# EAGLE library part MAX11635EEE+ (library CurrentSensing)
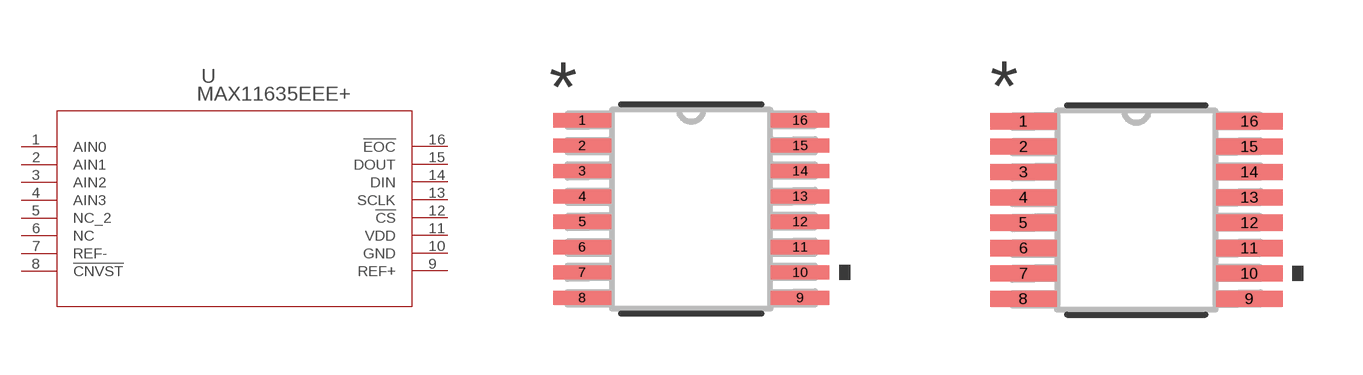
[diagram p2: symbol with the pads of 21-0055H_16_MXM; footprints 21-0055H_16_MXM, 21-0055H_16_MXM-M]

Designator prefix U

## MAX11635EEE+ (BUILT_BY: EMA_UL_Team; MANUFACTURER_PART_NUMBER: MAX11635EEE+; SOURCELIBRARY: Maxim_2014-05-21; VENDOR: Maxim Integrated Products)  [21-0055H_16_MXM]
1  AIN0  in
2  AIN1  in
3  AIN2  in
4  AIN3  in
5  NC_2  pas
6  NC  pas
7  REF-  pas
8  !CNVST  pas
9  REF+  pas
10  GND  pwr
11  VDD  pwr
12  !CS  pas
13  SCLK  pas
14  DIN  in
15  DOUT  out
16  !EOC  pas

## MAX11635EEE+21-0055H_16_MXM-M (BUILT_BY: EMA_UL_Team; MANUFACTURER_PART_NUMBER: MAX11635EEE+; SOURCELIBRARY: Maxim_2014-05-21; VENDOR: Maxim Integrated Products)  [21-0055H_16_MXM-M]
Pads as for 21-0055H_16_MXM

## MAX11635EEE+21-0055H_16_MXM-L (BUILT_BY: EMA_UL_Team; MANUFACTURER_PART_NUMBER: MAX11635EEE+; SOURCELIBRARY: Maxim_2014-05-21; VENDOR: Maxim Integrated Products)  [21-0055H_16_MXM-L]
Pads as for 21-0055H_16_MXM

## Footprint 21-0055H_16_MXM (pad centres in mm)
smd 1.46 x 0.356: 1 -2.724,2.223; 2 -2.724,1.587; 3 -2.724,0.953; 4 -2.724,0.318; 5 -2.724,-0.318; 6 -2.724,-0.953; 7 -2.724,-1.587; 8 -2.724,-2.223; 9 2.724,-2.223; 10 2.724,-1.587; 11 2.724,-0.953; 12 2.724,-0.318; 13 2.724,0.318; 14 2.724,0.953; 15 2.724,1.587; 16 2.724,2.223

## Footprint 21-0055H_16_MXM-M (pad centres in mm)
smd 1.664 x 0.406: 1 -2.826,2.223; 2 -2.826,1.587; 3 -2.826,0.953; 4 -2.826,0.318; 5 -2.826,-0.318; 6 -2.826,-0.953; 7 -2.826,-1.587; 8 -2.826,-2.223; 9 2.826,-2.223; 10 2.826,-1.587; 11 2.826,-0.953; 12 2.826,-0.318; 13 2.826,0.318; 14 2.826,0.953; 15 2.826,1.587; 16 2.826,2.223

## Footprint 21-0055H_16_MXM-L (pad centres in mm)
smd 1.257 x 0.305: 1 -2.623,2.223; 2 -2.623,1.587; 3 -2.623,0.953; 4 -2.623,0.318; 5 -2.623,-0.318; 6 -2.623,-0.953; 7 -2.623,-1.587; 8 -2.623,-2.223; 9 2.623,-2.223; 10 2.623,-1.587; 11 2.623,-0.953; 12 2.623,-0.318; 13 2.623,0.318; 14 2.623,0.953; 15 2.623,1.587; 16 2.623,2.223